# Altium schematic symbol library Connectors.SchLib: 1 symbol
Pins are listed as number, name and electrical type; pins without a type are passive.

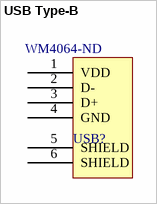
[diagram p0: symbol USB Type-B]

## USB Type-B
designator USB?, comment Supplier Part Number 1: WM4064-ND  (hidden comment: USB type-B jack)
Supplier 1: Digi-Key
footprint USB2.5-2H4E (Connector; USB1.1, Type B, Thru-Hole; 4 Position; Right Angle)
pins: 1 VDD (power), 2 D-, 3 D+, 4 GND (power), 5 SHIELD, 6 SHIELD